# Altium schematic symbol library LARS_409_TRANSISTORS.SCHLIB: 25 symbols
Pins are listed as number, name and electrical type; pins without a type are passive.

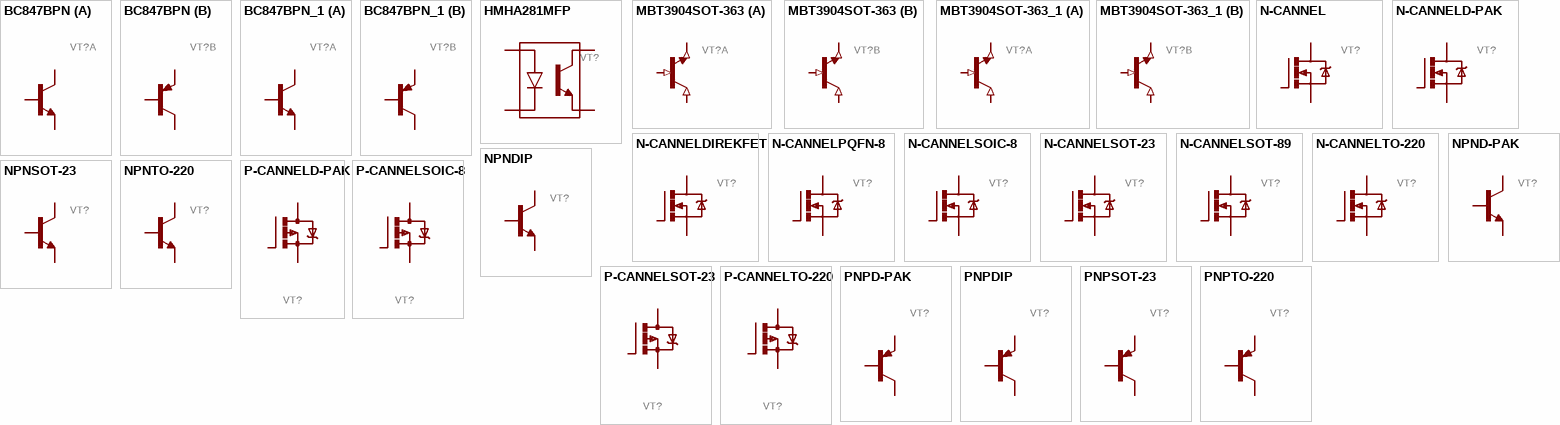
[diagram p0: symbols BC847BPN to PNPTO-220]

## BC847BPN
designator VT?
GateName_1: NPN; GateName_2: PNP; DeviceSetName: BC847BPN; SymbolName_1: NPN; SymbolName_2: PNP; LibraryName: LARS_409_TRANSISTORS; Package: SOT−363
footprint SOT−363
part A pins: 1 E, 2 B, 6 C
part B pins: 3 C, 4 E, 5 B

## BC847BPN_1
designator VT?
GateName_1: NPN; GateName_2: PNP; DeviceSetName: BC847BPN; SymbolName_1: NPN; SymbolName_2: PNP; LibraryName: LARS_409_TRANSISTORS; Package: SOT−363
footprint SOT−363
part A pins: 1 E, 2 B, 6 C
part B pins: 3 C, 4 E, 5 B

## HMHA281MFP
designator VT?
GateName_1: G$1; SymbolName_1: HMHA281; DeviceName: MFP; LibraryName: LARS_409_TRANSISTORS; DeviceSetName: HMHA281; Package: MFP
footprint MFP
pins: 1, 2, 3, 4

## MBT3904SOT-363
designator VT?
SymbolName_1: MBT3904; DeviceName: SOT-363; SymbolName_2: MBT3904; LibraryName: LARS_409_TRANSISTORS; DeviceSetName: MBT3904; Package: SOT−363
footprint SOT−363
part A pins: 3 C (in), 4 E (out), 5 B (in)
part B pins: 1 E (out), 2 B (in), 6 C (in)

## MBT3904SOT-363_1
designator VT?
SymbolName_1: MBT3904; DeviceName: SOT-363; SymbolName_2: MBT3904; LibraryName: LARS_409_TRANSISTORS; DeviceSetName: MBT3904; Package: SOT−363
footprint SOT−363
part A pins: 3 C (in), 4 E (out), 5 B (in)
part B pins: 1 E (out), 2 B (in), 6 C (in)

## N-CANNEL
designator VT?
GateName_1: G$1; SymbolName_1: N-CANNEL; LibraryName: LARS_409_TRANSISTORS; DeviceSetName: N-CANNEL; Package: TO-220-CUSTOM
footprint TO-220-CUSTOM
pins: D, G, S

## N-CANNELD-PAK
designator VT?
GateName_1: G$1; SymbolName_1: N-CANNEL; DeviceName: D-PAK; LibraryName: LARS_409_TRANSISTORS; DeviceSetName: N-CANNEL; Package: D-PAK
footprint D-PAK
pins: 1 G, 3 S, 4 D

## N-CANNELDIREKFET
designator VT?
GateName_1: G$1; SymbolName_1: N-CANNEL; DeviceName: DIREKFET; LibraryName: LARS_409_TRANSISTORS; DeviceSetName: N-CANNEL; Package: DIRECFET
footprint DIRECFET
pins: D11,12,21,22 D, G, S1-5 S

## N-CANNELPQFN-8
designator VT?
GateName_1: G$1; SymbolName_1: N-CANNEL; DeviceName: PQFN-8; LibraryName: LARS_409_TRANSISTORS; DeviceSetName: N-CANNEL; Package: PQFN-8
footprint PQFN-8
pins: 1-3 S, 4 G, 5-9 D

## N-CANNELSOIC-8
designator VT?
GateName_1: G$1; SymbolName_1: N-CANNEL; DeviceName: SOIC-8; LibraryName: LARS_409_TRANSISTORS; DeviceSetName: N-CANNEL; Package: SOIC-8
footprint SOIC-8
pins: 1-3 S, 4 G, 5-8 D

## N-CANNELSOT-23
designator VT?
GateName_1: G$1; SymbolName_1: N-CANNEL; DeviceName: SOT-23; LibraryName: LARS_409_TRANSISTORS; DeviceSetName: N-CANNEL; Package: SOT-23
footprint SOT-23
pins: 1 G, 2 S, 3 D

## N-CANNELSOT-89
designator VT?
GateName_1: G$1; SymbolName_1: N-CANNEL; DeviceName: SOT-89; LibraryName: LARS_409_TRANSISTORS; DeviceSetName: N-CANNEL; Package: SOT-89
footprint SOT-89
pins: 1 G, 2 D, 3 S

## N-CANNELTO-220
designator VT?
GateName_1: G$1; SymbolName_1: N-CANNEL; DeviceName: TO-220; LibraryName: LARS_409_TRANSISTORS; DeviceSetName: N-CANNEL; Package: TO-220
footprint TO-220
pins: B G, C D, E S

## NPND-PAK
designator VT?
GateName_1: G$1; SymbolName_1: NPN; DeviceName: D-PAK; LibraryName: LARS_409_TRANSISTORS; DeviceSetName: NPN; Package: D-PAK
footprint D-PAK
pins: 1 B, 3 E, 4 C

## NPNDIP
designator VT?
GateName_1: G$1; SymbolName_1: NPN; DeviceName: DIP; LibraryName: LARS_409_TRANSISTORS; DeviceSetName: NPN; Package: TO92
footprint TO92
pins: 1 E, 2 B, 3 C

## NPNSOT-23
designator VT?
GateName_1: G$1; SymbolName_1: NPN; DeviceName: SOT-23; LibraryName: LARS_409_TRANSISTORS; DeviceSetName: NPN; Package: SOT-23
footprint SOT-23
pins: 1 B, 2 E, 3 C

## NPNTO-220
designator VT?
GateName_1: G$1; SymbolName_1: NPN; DeviceName: TO-220; LibraryName: LARS_409_TRANSISTORS; DeviceSetName: NPN; Package: TO-220
footprint TO-220
pins: B, C, E

## P-CANNELD-PAK
designator VT?
GateName_1: G$1; SymbolName_1: P-CANNEL; DeviceName: D-PAK; LibraryName: LARS_409_TRANSISTORS; DeviceSetName: P-CANNEL; Package: D-PAK
footprint D-PAK
pins: 1 G, 3 S, 4 D

## P-CANNELSOIC-8
designator VT?
GateName_1: G$1; SymbolName_1: P-CANNEL; DeviceName: SOIC-8; LibraryName: LARS_409_TRANSISTORS; DeviceSetName: P-CANNEL; Package: SOIC-8
footprint SOIC-8
pins: 1-3 S, 4 G, 5-8 D

## P-CANNELSOT-23
designator VT?
GateName_1: G$1; SymbolName_1: P-CANNEL; DeviceName: SOT-23; LibraryName: LARS_409_TRANSISTORS; DeviceSetName: P-CANNEL; Package: SOT-23
footprint SOT-23
pins: 1 G, 2 S, 3 D

## P-CANNELTO-220
designator VT?
GateName_1: G$1; SymbolName_1: P-CANNEL; DeviceName: TO-220; LibraryName: LARS_409_TRANSISTORS; DeviceSetName: P-CANNEL; Package: TO-220
footprint TO-220
pins: B G, C D, E S

## PNPD-PAK
designator VT?
GateName_1: G$1; SymbolName_1: PNP; DeviceName: D-PAK; LibraryName: LARS_409_TRANSISTORS; DeviceSetName: PNP; Package: D-PAK
footprint D-PAK
pins: 1 B, 3 E, 4 C

## PNPDIP
designator VT?
GateName_1: G$1; SymbolName_1: PNP; DeviceName: DIP; LibraryName: LARS_409_TRANSISTORS; DeviceSetName: PNP; Package: TO92
footprint TO92
pins: 1 E, 2 B, 3 C

## PNPSOT-23
designator VT?
GateName_1: G$1; SymbolName_1: PNP; DeviceName: SOT-23; LibraryName: LARS_409_TRANSISTORS; DeviceSetName: PNP; Package: SOT-23
footprint SOT-23
pins: 1 B, 2 E, 3 C

## PNPTO-220
designator VT?
GateName_1: G$1; SymbolName_1: PNP; DeviceName: TO-220; LibraryName: LARS_409_TRANSISTORS; DeviceSetName: PNP; Package: TO-220
footprint TO-220
pins: B, C, E